# Altium schematic symbol library 7Robot.SchLib: 43 symbols
Pins are listed as number, name and electrical type; pins without a type are passive.

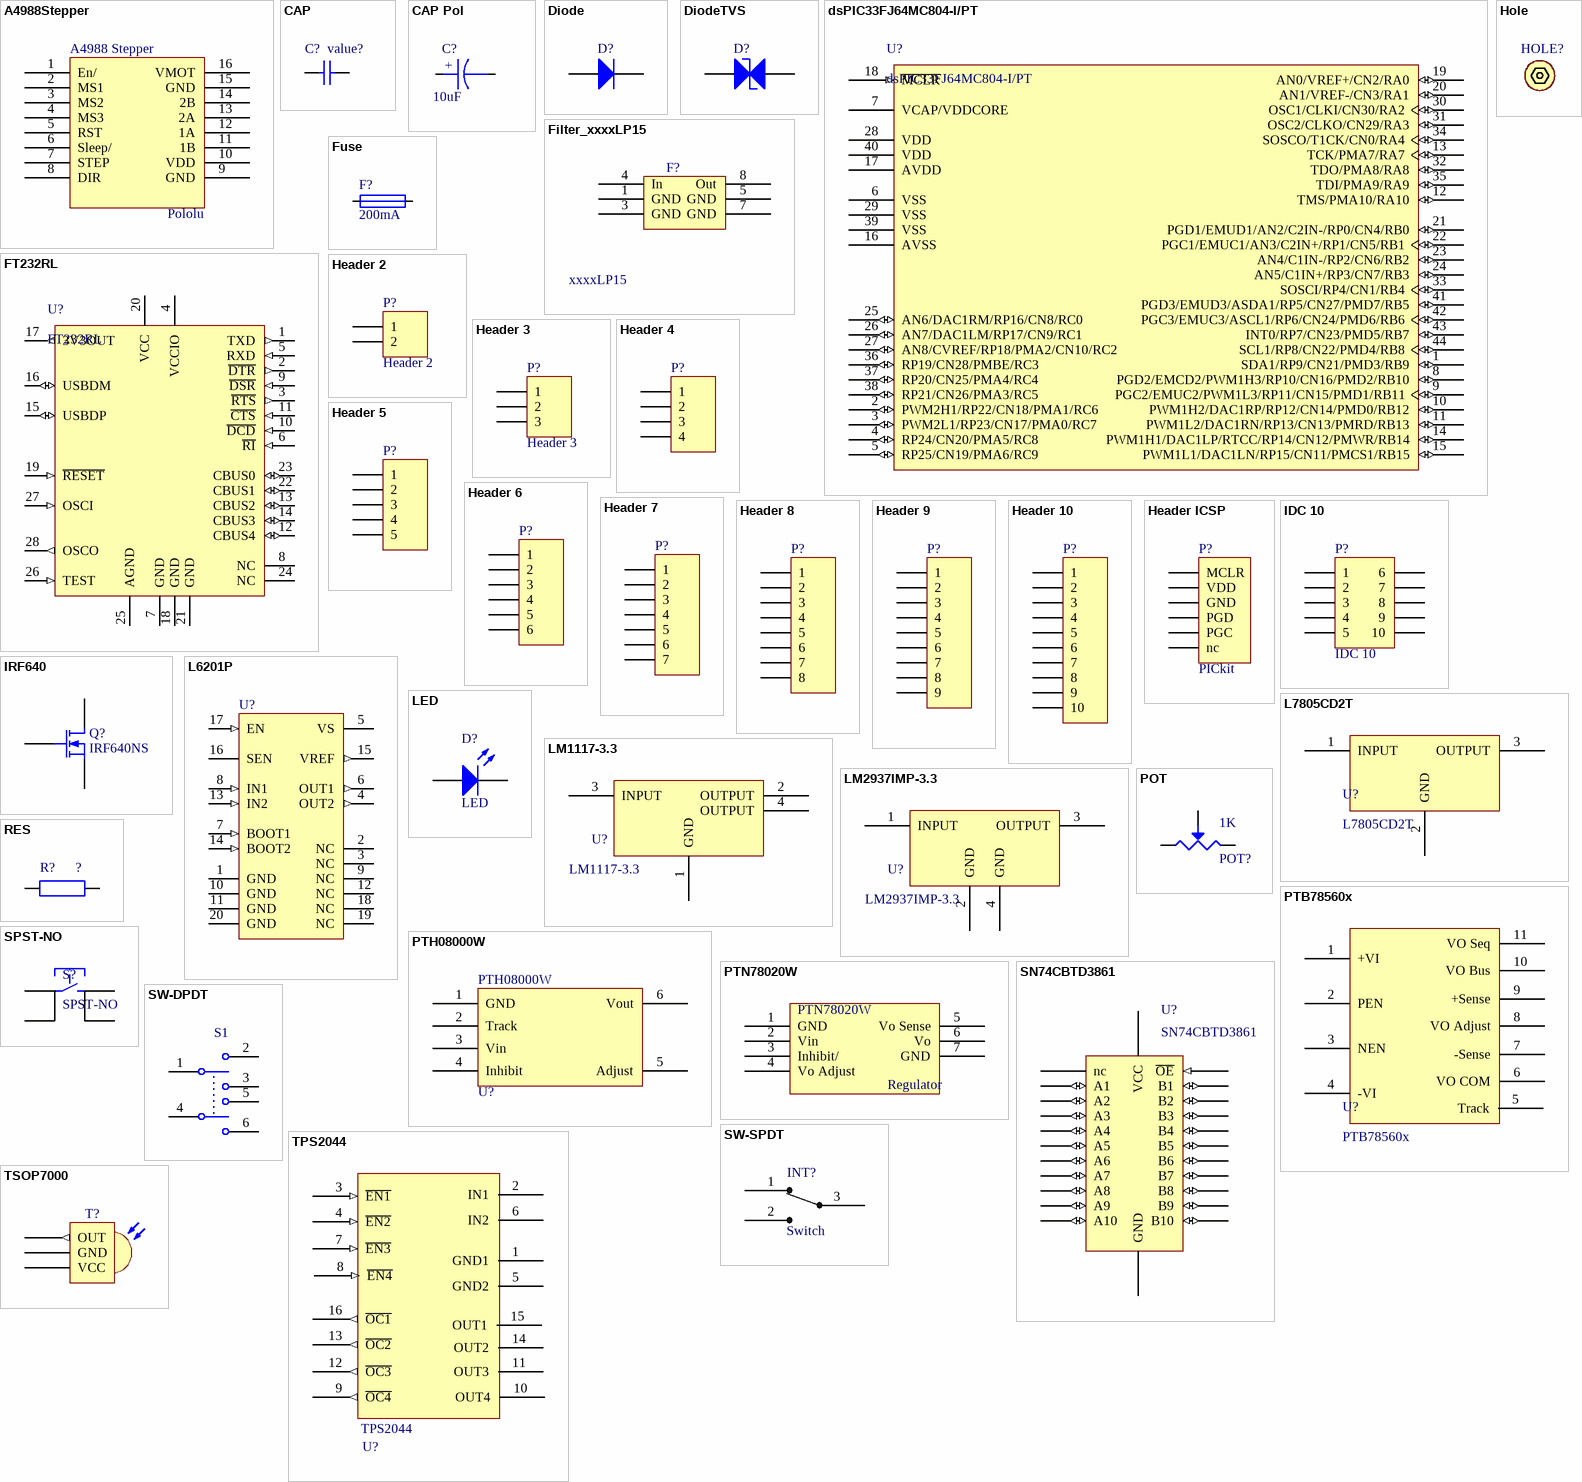
[diagram p0: symbols A4988Stepper to TSOP7000]

## A4988Stepper
designator A4988 Stepper, comment Pololu
footprint doubleHeader16
pins: 1 En/, 2 MS1, 3 MS2, 4 MS3, 5 RST, 6 Sleep/, 7 STEP, 8 DIR, 9 GND, 10 VDD, 11 1B, 12 1A, 13 2A, 14 2B, 15 GND, 16 VMOT

## CAP
designator C?  value value?  (hidden comment: CAP)
Capacitor; Published: 8-Jun-2000; LatestRevisionDate: 29-May-2009; LatestRevisionNote: IPC-7351 Footprint Added.; PackageReference: C1206; Publisher: Altium Limited; PackageDescription: Chip Capacitor
footprint C0805C
pins: 1, 2

## CAP Pol
designator C?  value 10uF
Polarized Capacitor
footprint RB.2/.4
footprint RB.2/.6
footprint RB.1/.3
footprint RB.3/.9
footprint RB.4/.18
footprint RB.5/.18
footprint Capacitor axial leaded
pins: 1, 2
text: +

## Diode
designator D?  (value not drawn)
Default Diode; Published: 8-Jun-2000; LatestRevisionDate: 17-Jul-2002; LatestRevisionNote: Re-released for DXP Platform.; PackageVersion: Sep-1996; PackageReference: SMC; Publisher: Altium Limited; PackageDescription: DO-214-AB/SMC; 2 C-Bend Leads; Body 7.9 x 5.9 mm, inc. leads (LxW); Code_JEDEC: DO-214-AB
footprint DSO-C2/X1.8 (Diode; DO-214-AC/SMA; 2 C-Bend Leads; Body 5 x 2.7 mm, inc. leads (LxW))
footprint DSO-C2/X3.3 (DO-214-AB/SMC; 2 C-Bend Leads; Body 7.9 x 5.9 mm, inc. leads (LxW))
footprint SMB IPC 7531 (Molded Diode, 2-Leads, Body 5,8x3,6mm, IPC Medium Density)
footprint DO-201AD Folded (Folded Axial Lead Diode ; 5mm radius, 1.25mm leads)
pins: A, K

## DiodeTVS
designator D?  (value not drawn)
Diode TVS; Published: 8-Jun-2000; LatestRevisionDate: 17-Jul-2002; LatestRevisionNote: Re-released for DXP Platform.; PackageVersion: Sep-1996; PackageReference: SMC; Publisher: Altium Limited; PackageDescription: DO-214-AB/SMC; 2 C-Bend Leads; Body 7.9 x 5.9 mm, inc. leads (LxW); Code_JEDEC: DO-214-AB
footprint DIOM4336X22N (Molded Diode, 2-Leads, Body 4,31x3,62mm, IPC Medium Density)
pins: A, K

## dsPIC33FJ64MC804-I/PT
designator U?
High-Performance 16-bit Digital Signal Controller, 64 KB Flash, 16 KB RAM, 44-Pin TQFP, Industrial Temperature; Published: 2-Dec-2009; DatasheetVersion: revD, Nov-2009; PackageVersion: revBB, Aug-2009; PackageReference: TQFP-PT44; Publisher: Altium Limited; PackageDescription: 44-Lead Plastic Thin Quad Flatpack (PT) - 10x10x1mm Body, 2.00mm [TQFP]; Supplier 1: Digi-Key; Supplier Part Number 1: DSPIC33FJ64MC804-I/PT-ND; Supplier 2: Farnell; Supplier Part Number 2: 1576844; Code_JEDEC: MS-026; ComponentLink1Description: Datasheet; ComponentLink1URL: http://ww1.microchip.com/downloads/en/DeviceDoc/70291D.pdf; ComponentLink2Description: Packaging Specification; ComponentLink2URL: http://www.microchip.com/stellent/groups/techpub_sg/documents/packagingspec/en012702.pdf; ComponentLink3Description: Microchip.com Home; ComponentLink3URL: http://www.microchip.com/
footprint TQFP-PT44_N (Thin QFP, 44-Leads, Body 10x10mm, Pitch 0.8mm, IPC Medium Density)
pins: 1 SDA1/RP9/CN21/PMD3/RB9 (io), 2 PWM2H1/RP22/CN18/PMA1/RC6 (io), 3 PWM2L1/RP23/CN17/PMA0/RC7 (io), 4 RP24/CN20/PMA5/RC8 (io), 5 RP25/CN19/PMA6/RC9 (io), 6 VSS (power), 7 VCAP/VDDCORE (power), 8 PGD2/EMCD2/PWM1H3/RP10/CN16/PMD2/RB10 (io), 9 PGC2/EMUC2/PWM1L3/RP11/CN15/PMD1/RB11 (io), 10 PWM1H2/DAC1RP/RP12/CN14/PMD0/RB12 (io), 11 PWM1L2/DAC1RN/RP13/CN13/PMRD/RB13 (io), 12 TMS/PMA10/RA10 (io), 13 TCK/PMA7/RA7 (io), 14 PWM1H1/DAC1LP/RTCC/RP14/CN12/PMWR/RB14 (io), 15 PWM1L1/DAC1LN/RP15/CN11/PMCS1/RB15 (io), 16 AVSS (power), 17 AVDD (power), 18 ~{MCLR} (in), 19 AN0/VREF+/CN2/RA0 (io), 20 AN1/VREF-/CN3/RA1 (io), 21 PGD1/EMUD1/AN2/C2IN-/RP0/CN4/RB0 (io), 22 PGC1/EMUC1/AN3/C2IN+/RP1/CN5/RB1 (io), 23 AN4/C1IN-/RP2/CN6/RB2 (io), 24 AN5/C1IN+/RP3/CN7/RB3 (io), 25 AN6/DAC1RM/RP16/CN8/RC0 (io), 26 AN7/DAC1LM/RP17/CN9/RC1 (io), 27 AN8/CVREF/RP18/PMA2/CN10/RC2 (io), 28 VDD (power), 29 VSS (power), 30 OSC1/CLKI/CN30/RA2 (io), 31 OSC2/CLKO/CN29/RA3 (io), 32 TDO/PMA8/RA8 (io), 33 SOSCI/RP4/CN1/RB4 (io), 34 SOSCO/T1CK/CN0/RA4 (io), 35 TDI/PMA9/RA9 (io), 36 RP19/CN28/PMBE/RC3 (io), 37 RP20/CN25/PMA4/RC4 (io), 38 RP21/CN26/PMA3/RC5 (io), 39 VSS (power), 40 VDD (power), 41 PGD3/EMUD3/ASDA1/RP5/CN27/PMD7/RB5 (io), 42 PGC3/EMUC3/ASCL1/RP6/CN24/PMD6/RB6 (io), 43 INT0/RP7/CN23/PMD5/RB7 (io), 44 SCL1/RP8/CN22/PMD4/RB8 (io)

## Filter_xxxxLP15
designator F?, comment xxxxLP15
footprint xxxLP15_F
pins: 1 GND, 3 GND, 4 In, 5 GND, 7 GND, 8 Out

## FT232RL
designator U?
USB UART Asynchronous Serial Data Transfer Chip, SSOP-28, Tube; Published: 19-Aug-2010; DatasheetVersion: ver 2.07, Jul-2010; PackageVersion: 2010; PackageReference: SSOP-28; Publisher: Altium Limited; PackageDescription: 28-Pin Small Outline Package 0.65 mm Pitch; ComponentLink1Description: Manufacturer Link; ComponentLink1URL: http://www.ftdichip.com/Products/ICs/FT232R.htm; ComponentLink2Description: Datasheet; ComponentLink2URL: http://www.ftdichip.com/Support/Documents/DataSheets/ICs/DS_FT232R.pdf
footprint SSOP-28_M (SOP, 28-Leads, Body 10.2x5.3mm, Pitch 0.65mm, IPC Low Density)
pins: 1 TXD (out), 2 ~{DTR} (out), 3 ~{RTS} (out), 4 VCCIO (power), 5 RXD (in), 6 ~{RI} (in), 7 GND (power), 8 NC, 9 ~{DSR} (in), 10 ~{DCD} (in), 11 ~{CTS} (in), 12 CBUS4 (io), 13 CBUS2 (io), 14 CBUS3 (io), 15 USBDP (io), 16 USBDM (io), 17 3V3OUT (out), 18 GND (power), 19 ~{RESET} (in), 20 VCC (power), 21 GND (power), 22 CBUS1 (io), 23 CBUS0 (io), 24 NC, 25 AGND (power), 26 TEST (in), 27 OSCI (in), 28 OSCO (out)

## Fuse
designator F?, comment 200mA
Standard Fuse Holder
footprint Fuse Holder 5x20mm (Schurter Fuse Holder 0751.0110)
pins: 1, 2

## Header 2
designator P?
Header, 2-Pin; LatestRevisionDate: 17-Jul-2002; LatestRevisionNote: Re-released for DXP Platform.; Publisher: Altium Limited
signal-integrity model Connector
footprint HDR1X2 (Connector; Header; 2 Position)
footprint TERM2W-3.5 (Horizontal Terminal Block, 2 ways, 3.5mm; Model 20.155MH/2)
footprint Bornier male coude 2 voies (Bornier male coude 2 voies 12A. Pas 5mm (model : CTB9350/2A))
footprint B2B-PH-K-S (JST Header 2 pins Straight)
footprint HDR1X2H (Connector; Header; 2 Position; Right Angle)
footprint HDR1X2J (Jumper; Connector; Header; 2 Position)
pins: 1, 2

## Header 3
designator P?
Header, 3-Pin; LatestRevisionDate: 17-Jul-2002; LatestRevisionNote: Re-released for DXP Platform.; Publisher: Altium Limited
signal-integrity model Connector
footprint HDR1X3 (Connector; Header; 3 Position)
footprint HDR1X3H (Connector; Header; 3 Position; Right Angle)
pins: 1, 2, 3

## Header 4
designator P?
Header, 4-Pin; LatestRevisionDate: 17-Jul-2002; LatestRevisionNote: Re-released for DXP Platform.; Publisher: Altium Limited
signal-integrity model Connector
footprint HDR1X4 (Connector; Header; 4 Position)
footprint HDR1X4H (Connector; Header; 4 Position; Right Angle)
pins: 1, 2, 3, 4

## Header 5
designator P?
Header, 5-Pin; LatestRevisionDate: 17-Jul-2002; LatestRevisionNote: Re-released for DXP Platform.; Publisher: Altium Limited
signal-integrity model Connector
footprint HDR1X5 (Connector; Header; 5 Position)
footprint HDR1X5H (Connector; Header; 5 Position; Right Angle)
pins: 1, 2, 3, 4, 5

## Header 6
designator P?
Header, 6-Pin; LatestRevisionDate: 17-Jul-2002; LatestRevisionNote: Re-released for DXP Platform.; Publisher: Altium Limited
footprint HDR1X6 (Connector; Header; 6 Position)
signal-integrity model Connector
footprint HDR1X6H (Connector; Header; 6 Position; Right Angle)
pins: 1, 2, 3, 4, 5, 6

## Header 7
designator P?
Header, 7-Pin; LatestRevisionDate: 17-Jul-2002; LatestRevisionNote: Re-released for DXP Platform.; Publisher: Altium Limited
footprint HDR1X7 (Connector; Header; 7 Position)
signal-integrity model Connector
footprint HDR1X7H (Connector; Header; 7 Position; Right Angle)
pins: 1, 2, 3, 4, 5, 6, 7

## Header 8
designator P?
Header, 8-Pin; LatestRevisionDate: 17-Jul-2002; LatestRevisionNote: Re-released for DXP Platform.; Publisher: Altium Limited
footprint HDR1X8 (Connector; Header; 8 Position)
signal-integrity model Connector
footprint HDR1X8H (Connector; Header; 8 Position; Right Angle)
pins: 1, 2, 3, 4, 5, 6, 7, 8

## Header 9
designator P?
Header, 9-Pin; LatestRevisionDate: 17-Jul-2002; LatestRevisionNote: Re-released for DXP Platform.; Publisher: Altium Limited
footprint HDR1X9 (Connector; Header; 9 Position)
signal-integrity model Connector
pins: 1, 2, 3, 4, 5, 6, 7, 8, 9

## Header 10
designator P?
Header, 10-Pin; LatestRevisionDate: 17-Jul-2002; LatestRevisionNote: Re-released for DXP Platform.; Publisher: Altium Limited
footprint HDR1X10 (Connector; Header; 10 Position)
signal-integrity model Connector
pins: 1, 2, 3, 4, 5, 6, 7, 8, 9, 10

## Header ICSP
designator P?, comment PICkit
Header, 6-Pin, Right Angle; LatestRevisionDate: 17-Jul-2002; LatestRevisionNote: Re-released for DXP Platform.; Publisher: Altium Limited
footprint HDR1X6H (Connector; Header; 6 Position; Right Angle)
pins: 1 MCLR, 2 VDD, 3 GND, 4 PGD, 5 PGC, 6 nc

## Hole
designator HOLE?
Mounting Hole for screws
footprint SCREW (Mounting Hole M3; http://blogs.mentor.com/tom-hausherr/blog/2011/03/18/pcb-design-perfection-starts-in-the-cad-library-part-13/)
pins: 1 Hole hidden

## IDC 10
designator P?
Header, 5-Pin, Dual row; LatestRevisionDate: 17-Jul-2002; LatestRevisionNote: Re-released for DXP Platform.; Publisher: Altium Limited
signal-integrity model Connector
footprint HDR2X5_CEN (Connector; Header; 5x2 Position)
pins: 1, 2, 3, 4, 5, 6, 7, 8, 9, 10

## IRF640
designator Q?, comment IRF640NS
N-Channel MOSFET, D2PAK (T0-263), InternationalRectifier; Published: 8-Jun-2000; LatestRevisionDate: 17-Jul-2002; LatestRevisionNote: Re-released for DXP Platform.; PackageVersion: 1995/1996; PackageReference: E3; Publisher: Altium Limited; PackageDescription: TO, Flat Index; 3 In-Line, Axial Leads; Body Dia. 4.6mm; Lead Dia. 0.5 mm (max)
simulation model NMOS (MOSFET-N)
footprint D2PAK (Power SMT D2-PAK/TO-263-AB; 3 Leads (1 Cropped); Body 15.5 (inc. leads) x 10.5 mm (LxW max))
pins: 1 G, 2 D, 3 S

## L6201P
designator U?
DMOS Full Bridge Driver; Published: 8-Jun-2000; LatestRevisionDate: 13-Apr-2006; LatestRevisionNote: IPC-7351 Footprint Added.; DatasheetVersion: Sep-1996; PackageVersion: May-1998; PackageReference: PowerSO20; Publisher: Altium Limited; PackageDescription: 20-Pin Small Outline Package 1.27 mm Pitch; Code_JEDEC: MO-166; ComponentLink1Description: Manufacturer Link; ComponentLink1URL: http://www.st.com/
footprint PowerSO20_M (SOP, 20-Leads, Body 15.9x11mm, Pitch 1.27mm, IPC Low Density)
pins: 1 GND (power), 2 NC, 3 NC, 4 OUT2 (out), 5 VS (power), 6 OUT1 (out), 7 BOOT1 (in), 8 IN1 (in), 9 NC, 10 GND (power), 11 GND (power), 12 NC, 13 IN2 (in), 14 BOOT2 (in), 15 VREF (out), 16 SEN, 17 EN (in), 18 NC, 19 NC, 20 GND (power)

## L7805CD2T
designator U?
5V Linear Regulator, D2PAK, ST Microelectronics
footprint D2PAK (Power SMT D2-PAK/TO-263-AB; 3 Leads (1 Cropped); Body 15.5 (inc. leads) x 10.5 mm (LxW max))
pins: 1 INPUT (power), 2 GND (power), 3 OUTPUT (power)

## LED
designator D?
Typical LED; Published: 8-Jun-2000; LatestRevisionDate: 17-Jul-2002; LatestRevisionNote: Re-released for DXP Platform.; PackageVersion: Feb-2002; PackageReference: 3.2X1.6X1.1; Publisher: Altium Limited; PackageDescription: SM LED; 2 Flat Leads
footprint LED1206G (SMT LED; 2 Flat Leads)
footprint LED1206Y (SMT LED; 2 Flat Leads)
footprint LED1206R (SMT LED; 2 Flat Leads)
footprint LED 5mm red (dip) (LED 5mm red (dip) straight)
footprint LED 5MM Horiz (LED 5mm Right Angle)
footprint LED 5mm green (dip) (LED 5mm green (dip) straight)
pins: 1 A, 2 K

## LM1117-3.3
designator U?
500 mA Low Dropout Regulator
footprint SOT-223 (Surface mounted, 4 pin package)
pins: 1 GND (power), 2 OUTPUT (power), 3 INPUT (power), 4 OUTPUT (power)

## LM2937IMP-3.3
designator U?
500 mA Low Dropout Regulator
footprint SOT-223 (Surface mounted, 4 pin package)
pins: 1 INPUT (power), 2 GND (power), 3 OUTPUT (power), 4 GND (power)

## POT
designator POT?, comment 1K
Potentiometer
footprint VR5 POT (Potentiometre ajustable)
pins: 1, 2, 3

## PTB78560x
designator U?
Texas Instruments Regulators
footprint PTB78560x (PTB78560x Texas Instruments Regulator)
pins: 1 +VI (power), 2 PEN (power), 3 NEN (power), 4 -VI (power), 5 Track (power), 6 VO COM, 7 -Sense, 8 VO Adjust, 9 +Sense, 10 VO Bus, 11 VO Seq

## PTH08000W
designator PTH08000W, comment U?
footprint PTH08000W
pins: 1 GND, 2 Track, 3 Vin, 4 Inhibit, 5 Adjust, 6 Vout

## PTN78020W
designator Regulator
footprint PTN78020W
pins: 1 GND, 2 Vin, 3 Inhibit/, 4 Vo Adjust, 5 Vo Sense, 6 Vo, 7 GND

## RES
designator R?
Resistor; Published: 8-Jun-2000; LatestRevisionDate: 29-May-2009; LatestRevisionNote: IPC-7351 Footprint Added.; PackageReference: J1-0603; Publisher: Altium Limited; PackageDescription: Chip Resistor; Value: ?
footprint AXIAL0.8
footprint C0805R
pins: 1, 2

## SN74CBTD3861
designator U?
10-bit FET bus level shifting switch
footprint TSSOP24 (TSSOP, 24-Leads, Body 6.5x4.4mm, Pitch 0.5mm; SN74CBTD3861)
pins: 1 nc, 2 A1 (io), 3 A2 (io), 4 A3 (io), 5 A4 (io), 6 A5 (io), 7 A6 (io), 8 A7 (io), 9 A8 (io), 10 A9 (io), 11 A10 (io), 12 GND (power), 13 B10 (io), 14 B9 (io), 15 B8 (io), 16 B7 (io), 17 B6 (io), 18 B5 (io), 19 B4 (io), 20 B3 (io), 21 B2 (io), 22 B1 (io), 23 ~{OE} (in), 24 VCC (power)

## SPST-NO
designator S?
Tactile Switch 7.3mm, SMD
footprint SPST-NO (Tactile Switch SPST-NO 6x6mm)
pins: 1, 2, 3, 4

## SW-DPDT
designator S1, comment SW-DPDT/Reset  (value not drawn)
Double-Pole, Double-Throw Switch, ref MCLSS22; Published: 24-Mar-1999; LatestRevisionDate: 17-Jul-2002; LatestRevisionNote: Re-released for DXP Platform.; PackageReference: DPDT-6; Publisher: Altium Limited; PackageDescription: Switch; 6 Leads
footprint MCLSS22 (Slide Switch DPDT)
pins: 1, 2, 3, 4, 5, 6

## SW-SPDT
designator INT?, comment Switch
Slide Switch with 2 positions
footprint Switch sur cosses 5.08mm (Crimp Faston CI 5.08mm model : AMP - 1217080-1)
pins: 1 "Choix B", 2 "ChoixA", 3 "Signal"

## TPS2044
designator U?
Power distribution USB
footprint TPS2044 (Power distribution USB)
pins: 1 GND1, 2 IN1, 3 ~{EN1} (in), 4 ~{EN2} (in), 5 GND2, 6 IN2, 7 ~{EN3} (in), 8 ~{EN4} (in), 9 ~{OC4} (out), 10 OUT4 (power), 11 OUT3 (power), 12 ~{OC3} (out), 13 ~{OC2} (out), 14 OUT2 (power), 15 OUT1 (power), 16 ~{OC1} (out)

## TSOP7000
designator T?  (value not drawn)
Vishay 455kHz IR Receiver
footprint TSOP IR (TSOP IR Receiver, Vishay)
pins: 1 OUT (out), 2 GND (power), 3 VCC (power)

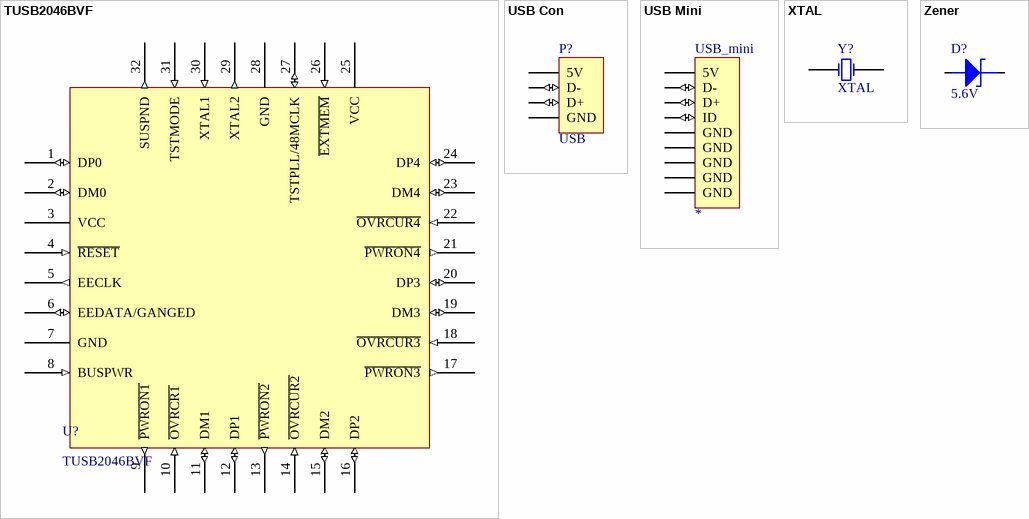
[diagram p1: symbols TUSB2046BVF to Zener]

## TUSB2046BVF
designator U?
TI 4-Port USB Hub
footprint TUSB2046BVF (TI 4-Port USB Hub)
pins: 1 DP0 (io), 2 DM0 (io), 3 VCC (power), 4 ~{RESET} (in), 5 EECLK (out), 6 EEDATA/GANGED (io), 7 GND (power), 8 BUSPWR (in), 9 ~{PWRON1} (out), 10 ~{OVRCR1} (in), 11 DM1 (io), 12 DP1 (io), 13 ~{PWRON2} (out), 14 ~{OVRCUR2} (in), 15 DM2 (io), 16 DP2 (io), 17 ~{PWRON3} (out), 18 ~{OVRCUR3} (in), 19 DM3 (io), 20 DP3 (io), 21 ~{PWRON4} (out), 22 ~{OVRCUR4} (in), 23 DM4 (io), 24 DP4 (io), 25 VCC (power), 26 ~{EXTMEM} (in), 27 TSTPLL/48MCLK (io), 28 GND (power), 29 XTAL2 (out), 30 XTAL1 (in), 31 TSTMODE (in), 32 SUSPND (out)

## USB Con
designator P?, comment USB
USB Connector; LatestRevisionDate: 17-Jul-2002; LatestRevisionNote: Re-released for DXP Platform.; Publisher: Altium Limited
footprint USB SM female vertical
footprint USB SM female vertical
footprint USB type B Vert (USB 2.0 chassis socket type B, upright version, for printed circuit boards ; Lumberg 2411 01  or  MC32597)
pins: 1 5V (power), 2 D- (io), 3 D+ (io), 4 GND (power)

## USB Mini
designator USB_mini
footprint USB/SM0.8-6H5 (Connector; USB2.0, Type B, SM; 5 Position; Right Angle)
pins: 1 5V (power), 2 D- (io), 3 D+ (io), 4 ID (io), 5 GND (power), 6 GND (power), 7 GND (power), 8 GND (power), 9 GND (power)

## XTAL
designator Y?
Crystal Oscillator; Published: 8-Jun-2000; LatestRevisionDate: 17-Jul-2002; LatestRevisionNote: Re-released for DXP Platform.; PackageReference: R38; Publisher: Altium Limited; PackageDescription: Crystal, Thru-Hole; 2 Leads; Body 3.1 x 8.2 mm (Dia.xH)
simulation model XTAL (Spice Subcircuit)
footprint HC49SMD C (Quartz Crystal, SMD thickness C; Body 13.4 (inc. leads) x 4.9 mm (LxW max))
pins: 1 OSC1, 2 OSC2

## Zener
designator D?, comment 5.6V
Zener Diode
footprint DSO-C2/X1.8 (Diode; DO-214-AC/SMA; 2 C-Bend Leads; Body 5 x 2.7 mm, inc. leads (LxW))
pins: 1 A, 2 K